# EAGLE library part MAX6374KA-T (library U-Maxim-MAX6374-watchdog)
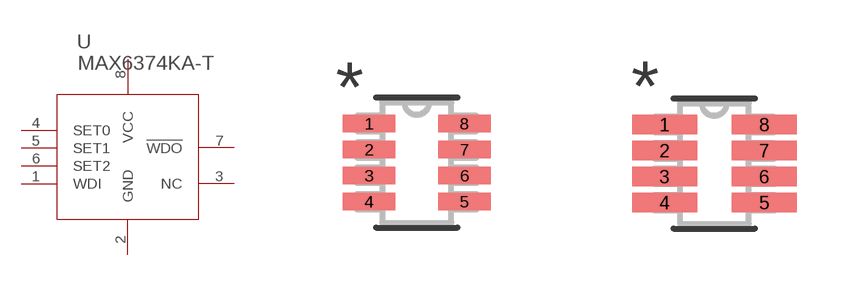
[diagram p0: symbol with the pads of 21-0078H; footprints 21-0078H, 21-0078H-M]

Designator prefix U

## MAX6374KA-T (MANUFACTURER_PART_NUMBER: max6374kat; VENDOR: Maxim Integrated Products)  [21-0078H]
1  WDI  in
2  GND  pwr
3  NC  nc
4  SET0  in
5  SET1  in
6  SET2  in
7  !WDO  out
8  VCC  pwr

## MAX6374KA-T21-0078H-M (MANUFACTURER_PART_NUMBER: max6374kat; VENDOR: Maxim Integrated Products)  [21-0078H-M]
Pads as for 21-0078H

## MAX6374KA-T21-0078H-L (MANUFACTURER_PART_NUMBER: max6374kat; VENDOR: Maxim Integrated Products)  [21-0078H-L]
Pads as for 21-0078H

## Footprint 21-0078H (pad centres in mm)
smd 1.321 x 0.432: 1 -1.194,0.975; 2 -1.194,0.325; 3 -1.194,-0.325; 4 -1.194,-0.975; 5 1.194,-0.975; 6 1.194,-0.325; 7 1.194,0.325; 8 1.194,0.975

## Footprint 21-0078H-M (pad centres in mm)
smd 1.626 x 0.483: 1 -1.245,0.975; 2 -1.245,0.325; 3 -1.245,-0.325; 4 -1.245,-0.975; 5 1.245,-0.975; 6 1.245,-0.325; 7 1.245,0.325; 8 1.245,0.975

## Footprint 21-0078H-L (pad centres in mm)
smd 1.016 x 0.381: 1 -1.143,0.975; 2 -1.143,0.325; 3 -1.143,-0.325; 4 -1.143,-0.975; 5 1.143,-0.975; 6 1.143,-0.325; 7 1.143,0.325; 8 1.143,0.975